# Altium footprint library SKY66420-11.PcbLib: 1 footprints
Each footprint in its own frame and in the unit in brackets; x right, y up, seen from the top. Pads: shape width x height; smd on the part's side, far side on the other; paste and mask are expansions set on the pad; w line width, h text height; cw(c..) or ccw(c..) is an arc to the next point about the centre after c.
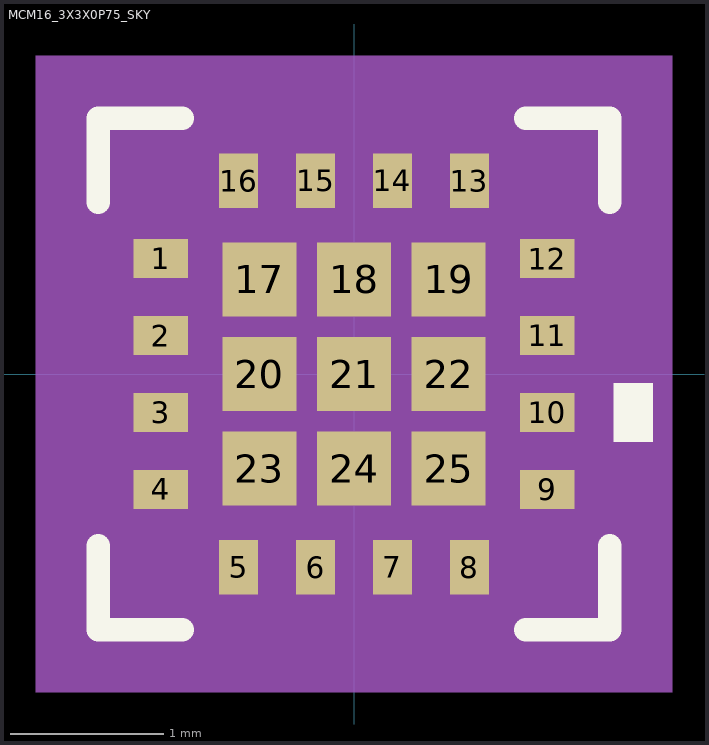
[diagram p0: the footprint, top view; thin cyan lines are the x and y axes]

## MCM16_3X3X0P75_SKY [mil]
pads (25):
  rect 14x10 smd paste+0 mask+0: 1(-49.5,29.53) 2(-49.5,9.84) 3(-49.5,-9.84) 4(-49.5,-29.53) 9(49.5,-29.53) 10(49.5,-9.84) 11(49.5,9.84) 12(49.5,29.53)
  rect 10x14 smd paste+0 mask+0: 5(-29.53,-49.5) 6(-9.84,-49.5) 7(9.84,-49.5) 8(29.53,-49.5) 13(29.53,49.5) 14(9.84,49.5) 15(-9.84,49.5) 16(-29.53,49.5)
  rect 19x19 smd paste+0 mask+0: 17(-24.21,24.21) 18(0,24.21) 19(24.21,24.21) 20(-24.21,0) 21(0,0) 22(24.21,0) 23(-24.21,-24.21) 24(0,-24.21) 25(24.21,-24.21)
Top Overlay:
  region: 66.5,-2.34 76.5,-2.34 76.5,-17.34 66.5,-17.34
  lines w6: -65.5,-44.05 -65.5,-65.5 -44.05,-65.5 ; -65.5,44.05 -65.5,65.5 -44.05,65.5 ; 44.05,-65.5 65.5,-65.5 65.5,-44.05 ; 44.05,65.5 65.5,65.5 65.5,44.05
Mechanical 5:
  region: 81.5,-81.5 -81.5,-81.5 -81.5,81.5 81.5,81.5
Mechanical 13:
  lines w1: -60.5,10.5 -10.5,60.5 ; -60.5,-60.5 60.5,-60.5 60.5,60.5 -60.5,60.5 -60.5,-60.5 ; -60.5,-34.53 -60.5,-24.53 -56.5,-24.53 -56.5,-34.53 -60.5,-34.53 ; -60.5,-14.84 -60.5,-4.84 -56.5,-4.84 -56.5,-14.84 -60.5,-14.84 ; -60.5,4.84 -60.5,14.84 -56.5,14.84 -56.5,4.84 -60.5,4.84 ; -60.5,24.53 -60.5,34.53 -56.5,34.53 -56.5,24.53 -60.5,24.53 ; -34.53,-60.5 -24.53,-60.5 -24.53,-56.5 -34.53,-56.5 -34.53,-60.5 ; -34.53,56.5 -24.53,56.5 -24.53,60.5 -34.53,60.5 -34.53,56.5 ; -14.84,-60.5 -4.84,-60.5 -4.84,-56.5 -14.84,-56.5 -14.84,-60.5 ; -14.84,56.5 -4.84,56.5 -4.84,60.5 -14.84,60.5 -14.84,56.5 ; 4.84,-60.5 14.84,-60.5 14.84,-56.5 4.84,-56.5 4.84,-60.5 ; 4.84,56.5 14.84,56.5 14.84,60.5 4.84,60.5 4.84,56.5 ; 24.53,-60.5 34.53,-60.5 34.53,-56.5 24.53,-56.5 24.53,-60.5 ; 24.53,56.5 34.53,56.5 34.53,60.5 24.53,60.5 24.53,56.5 ; 56.5,-34.53 60.5,-34.53 60.5,-24.53 56.5,-24.53 56.5,-34.53 ; 56.5,-14.84 60.5,-14.84 60.5,-4.84 56.5,-4.84 56.5,-14.84 ; 56.5,4.84 60.5,4.84 60.5,14.84 56.5,14.84 56.5,4.84 ; 56.5,24.53 60.5,24.53 60.5,34.53 56.5,34.53 56.5,24.53
  text "*" at -30,4.53 h50
Mechanical 15:
  region: -44.53,-70.5 -70.5,-70.5 -70.5,-44.53 -70.5,44.53 -70.5,70.5 -44.53,70.5 44.53,70.5 70.5,70.5 70.5,44.53 70.5,-44.53 70.5,-70.5 44.53,-70.5
  lines w6: -70.5,-70.5 -70.5,-44.53 -70.5,44.53 -70.5,70.5 -44.53,70.5 44.53,70.5 70.5,70.5 70.5,44.53 70.5,-44.53 70.5,-70.5 44.53,-70.5 -44.53,-70.5 -70.5,-70.5
3D body "SKY66420-11--3DModel-STEP-56544.STEP": height 31.5, standoff 0, extent -59.06,-59.06 59.06,59.06
3D body: height 10, standoff 0, extent 0,0 10,10